# EAGLE library part TPS55340 (library heck)
Integrated 5-A Wide Input Range Boost/SEPIC/Flyback DC-DC Regulator
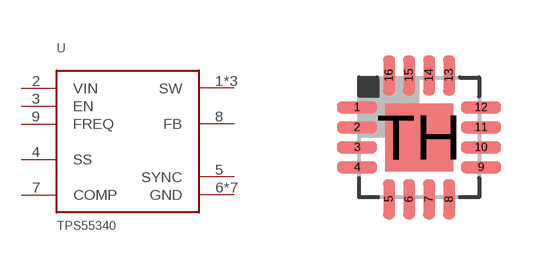
[diagram p33: symbol with the pads of QFN16; footprint QFN16]

Designator prefix U

## TPS55340RTE  [QFN16]
1  SW
2  VIN
3  EN
4  SS
5  SYNC
6  GND
7  COMP
8  FB
9  FREQ
10  GND
11  GND
12  GND
13  GND
14  GND
15  SW
16  SW
TH  GND

## Footprint QFN16 (pad centres in mm)
RTE (S-PQFP-N16) 3x3 mm Source: www.ti.com .. tpa6132a2 direct path stereo $.65.pdf
smd 1 x 0.3: 1 -1.55,0.75; 2 -1.55,0.25; 3 -1.55,-0.25; 4 -1.55,-0.75; 9 1.55,-0.75; 10 1.55,-0.25; 11 1.55,0.25; 12 1.55,0.75
smd 0.3 x 1: 5 -0.75,-1.55; 6 -0.25,-1.55; 7 0.25,-1.55; 8 0.75,-1.55; 13 0.75,1.55; 14 0.25,1.55; 15 -0.25,1.55; 16 -0.75,1.55
smd 1.7 x 1.7: TH 0,0